# EAGLE library part 95278-101A06LF (library Common-Parts-Library-Eagle)
Unshrouded Header, SMT, Double Row, 6 Positions, 2.54 mm Pitch, Vertical
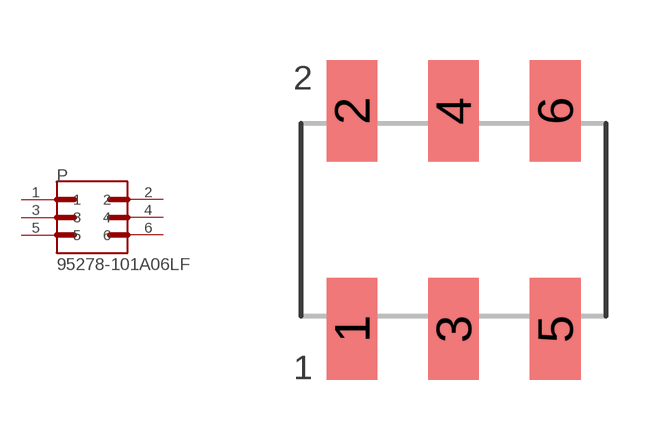
[diagram p9: symbol with the pads of FCI_95278-101A06LF; footprint FCI_95278-101A06LF]

Designator prefix P

## 95278-101A06LF (MANUFACTURER: Framatome)  [FCI_95278-101A06LF]
1  1  pas
2  2  pas
3  3  pas
4  4  pas
5  5  pas
6  6  pas

## Footprint FCI_95278-101A06LF (pad centres in mm)
smd 1.27 x 2.54: 1 -2.54,-2.73; 2 -2.54,2.73; 3 0,-2.73; 4 0,2.73; 5 2.54,-2.73; 6 2.54,2.73